# Altium footprint library 排针-排母.PcbLib: 177 footprints (part 1 of 12)
Each footprint in its own frame and in the unit in brackets; x right, y up, seen from the top. Pads: shape width x height; smd on the part's side, far side on the other; paste and mask are expansions set on the pad; w line width, h text height; cw(c..) or ccw(c..) is an arc to the next point about the centre after c.
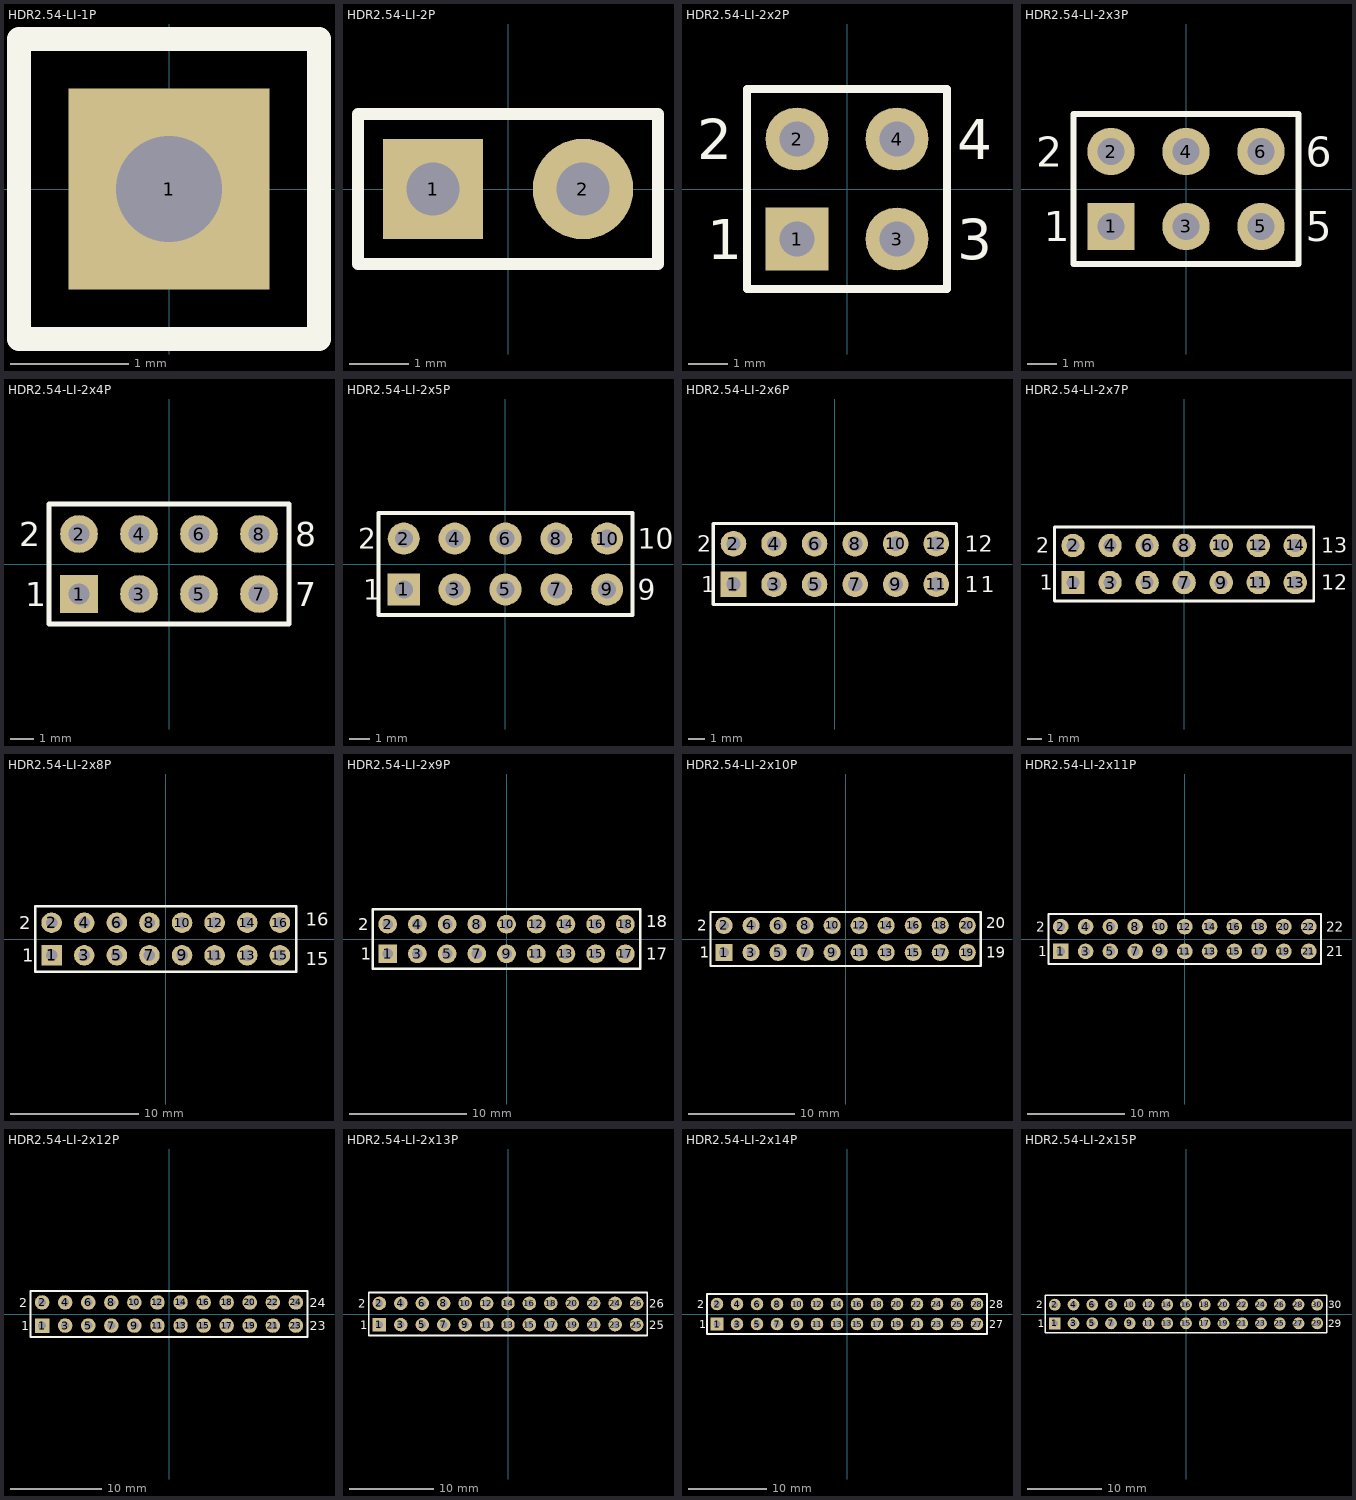
[diagram p0: the footprints below, top view; thin cyan lines are the x and y axes]

## HDR2.54-LI-1P [mm] "排针，1脚"
pads (1):
  rect 1.7x1.7 hole 0.9: 1(0,0)
Top Overlay:
  lines w0.2: -1.27,-1.27 -1.27,1.27 1.27,1.27 1.27,-1.27 -1.27,-1.27
3D body: height 8.5, standoff -3, extent -1.27,-1.27 1.27,1.27

## HDR2.54-LI-2P [mm] "排针，2脚"
pads (2):
  rect 1.7x1.7 hole 0.9: 1(-1.27,0)
  round 1.7 hole 0.9: 2(1.27,0)
Top Overlay:
  lines w0.2: -2.54,-1.27 -2.54,1.27 2.54,1.27 2.54,-1.27 -2.54,-1.27
3D body: height 8.5, standoff -3, extent 0,-1.27 2.54,1.27
3D body: height 8.5, standoff -3, extent -2.54,-1.27 0,1.27

## HDR2.54-LI-2x2P [mm] "双排排针，2x2脚"
pads (4):
  rect 1.6x1.6 hole 0.9: 1(-1.27,-1.27)
  round 1.6 hole 0.9: 2(-1.27,1.27) 3(1.27,-1.27) 4(1.27,1.27)
Top Overlay:
  lines w0.2: -2.54,-2.54 2.54,-2.54 2.54,2.54 -2.54,2.54 -2.54,-2.54
  text "3" at 2.794,-1.778 h1.02
  text "4" at 2.794,0.762 h1.02
  text "2" at -3.81,0.762 h1.02
  text "1" at -3.556,-1.778 h1.02
3D body: height 8.5, standoff -3, extent 0,-2.54 2.54,2.54
3D body: height 8.5, standoff -3, extent -2.54,-2.54 0,2.54

## HDR2.54-LI-2x3P [mm] "双排排针，3x2脚"
pads (6):
  rect 1.6x1.6 hole 0.9: 1(-2.54,-1.27)
  round 1.6 hole 0.9: 2(-2.54,1.27) 3(0,-1.27) 4(0,1.27) 5(2.54,-1.27) 6(2.54,1.27)
Top Overlay:
  lines w0.2: -1.058,-2.54 3.81,-2.54 ; 3.81,-2.54 -3.81,-2.54 -3.81,2.54 3.81,2.54 3.81,-2.54
  text "1" at -4.826,-1.778 h1.02
  text "2" at -5.08,0.762 h1.02
  text "5" at 4.064,-1.778 h1.02
  text "6" at 4.064,0.762 h1.02
3D body: height 8.5, standoff -3, extent -1.27,-2.54 1.27,2.54
3D body: height 8.5, standoff -3, extent -3.81,-2.54 -1.27,2.54
3D body: height 8.5, standoff -3, extent 1.27,-2.54 3.81,2.54

## HDR2.54-LI-2x4P [mm] "双排排针，4x2脚"
pads (8):
  rect 1.6x1.6 hole 0.9: 1(-3.81,-1.27)
  round 1.6 hole 0.9: 2(-3.81,1.27) 3(-1.27,-1.27) 4(-1.27,1.27) 5(1.27,-1.27) 6(1.27,1.27) 7(3.81,-1.27) 8(3.81,1.27)
Top Overlay:
  lines w0.2: -2.328,-2.54 5.08,-2.54 5.08,2.54 -5.08,2.54 -5.08,-2.54 2.54,-2.54
  text "7" at 5.334,-1.778 h1.02
  text "2" at -6.35,0.762 h1.02
  text "1" at -6.096,-1.778 h1.02
  text "8" at 5.334,0.762 h1.02
3D body: height 8.5, standoff -3, extent 0,-2.54 2.54,2.54
3D body: height 8.5, standoff -3, extent 2.54,-2.54 5.08,2.54
3D body: height 8.5, standoff -3, extent -5.08,-2.54 -2.54,2.54
3D body: height 8.5, standoff -3, extent -2.54,-2.54 0,2.54

## HDR2.54-LI-2x5P [mm] "双排排针，5x2脚"
pads (10):
  rect 1.6x1.6 hole 0.9: 1(-5.08,-1.27)
  round 1.6 hole 0.9: 2(-5.08,1.27) 3(-2.54,-1.27) 4(-2.54,1.27) 5(0,-1.27) 6(0,1.27) 7(2.54,-1.27) 8(2.54,1.27) 9(5.08,-1.27) 10(5.08,1.27)
Top Overlay:
  lines w0.2: -6.35,-2.54 6.35,-2.54 6.35,2.54 -6.35,2.54 -6.35,-2.54
  text "10" at 6.604,0.762 h1.02
  text "9" at 6.604,-1.778 h1.02
  text "1" at -7.112,-1.778 h1.02
  text "2" at -7.366,0.762 h1.02
3D body: height 8.5, standoff -3, extent 3.81,-2.54 6.35,2.54
3D body: height 8.5, standoff -3, extent -3.81,-2.54 -1.27,2.54
3D body: height 8.5, standoff -3, extent -6.35,-2.54 -3.81,2.54
3D body: height 8.5, standoff -3, extent 1.27,-2.54 3.81,2.54
3D body: height 8.5, standoff -3, extent -1.27,-2.54 1.27,2.54

## HDR2.54-LI-2x6P [mm] "双排排针，6x2脚"
pads (12):
  rect 1.6x1.6 hole 0.9: 1(-6.35,-1.27)
  round 1.6 hole 0.9: 2(-6.35,1.27) 3(-3.81,-1.27) 4(-3.81,1.27) 5(-1.27,-1.27) 6(-1.27,1.27) 7(1.27,-1.27) 8(1.27,1.27) 9(3.81,-1.27) 10(3.81,1.27) 11(6.35,-1.27) 12(6.35,1.27)
Top Overlay:
  lines w0.2: -7.62,-2.54 7.62,-2.54 7.62,2.54 -7.62,2.54 -7.62,-2.54
  text "12" at 8.128,0.762 h1.02
  text "1" at 9.144,-1.778 h1.02
  text "1" at 8.128,-1.778 h1.02
  text "1" at -8.382,-1.778 h1.02
  text "2" at -8.636,0.762 h1.02
3D body: height 8.5, standoff -3, extent 2.54,-2.54 5.08,2.54
3D body: height 8.5, standoff -3, extent -5.08,-2.54 -2.54,2.54
3D body: height 8.5, standoff -3, extent -7.62,-2.54 -5.08,2.54
3D body: height 8.5, standoff -3, extent 0,-2.54 2.54,2.54
3D body: height 8.5, standoff -3, extent -2.54,-2.54 0,2.54
3D body: height 8.5, standoff -3, extent 5.08,-2.54 7.62,2.54

## HDR2.54-LI-2x7P [mm] "双排排针，7x2脚"
pads (14):
  rect 1.6x1.6 hole 0.9: 1(-7.62,-1.27)
  round 1.6 hole 0.9: 2(-7.62,1.27) 3(-5.08,-1.27) 4(-5.08,1.27) 5(-2.54,-1.27) 6(-2.54,1.27) 7(0,-1.27) 8(0,1.27) 9(2.54,-1.27) 10(2.54,1.27) 11(5.08,-1.27) 12(5.08,1.27) 13(7.62,-1.27) 14(7.62,1.27)
Top Overlay:
  lines w0.2: -8.89,-2.54 8.89,-2.54 8.89,2.54 -8.89,2.54 -8.89,-2.54
  text "12" at 9.398,-1.778 h1.02
  text "13" at 9.398,0.762 h1.02
  text "1" at -9.906,-1.778 h1.02
  text "2" at -10.16,0.762 h1.02
3D body: height 8.5, standoff -3, extent 1.27,-2.54 3.81,2.54
3D body: height 8.5, standoff -3, extent -6.35,-2.54 -3.81,2.54
3D body: height 8.5, standoff -3, extent -8.89,-2.54 -6.35,2.54
3D body: height 8.5, standoff -3, extent -1.27,-2.54 1.27,2.54
3D body: height 8.5, standoff -3, extent -3.81,-2.54 -1.27,2.54
3D body: height 8.5, standoff -3, extent 6.35,-2.54 8.89,2.54
3D body: height 8.5, standoff -3, extent 3.81,-2.54 6.35,2.54

## HDR2.54-LI-2x8P [mm] "双排排针，8x2脚"
pads (16):
  rect 1.6x1.6 hole 0.9: 1(-8.89,-1.27)
  round 1.6 hole 0.9: 2(-8.89,1.27) 3(-6.35,-1.27) 4(-6.35,1.27) 5(-3.81,-1.27) 6(-3.81,1.27) 7(-1.27,-1.27) 8(-1.27,1.27) 9(1.27,-1.27) 10(1.27,1.27) 11(3.81,-1.27) 12(3.81,1.27) 13(6.35,-1.27) 14(6.35,1.27) 15(8.89,-1.27) 16(8.89,1.27)
Top Overlay:
  lines w0.2: -10.16,-2.54 -10.16,2.54 10.16,2.54 10.16,-2.54 -10.16,-2.54
  text "2" at -11.43,0.762 h1.02
  text "1" at -11.176,-1.778 h1.02
  text "16" at 10.922,1.016 h1.02
  text "15" at 10.922,-2.032 h1.02
3D body: height 8.5, standoff -3, extent 0,-2.54 2.54,2.54
3D body: height 8.5, standoff -3, extent -7.62,-2.54 -5.08,2.54
3D body: height 8.5, standoff -3, extent -10.16,-2.54 -7.62,2.54
3D body: height 8.5, standoff -3, extent -2.54,-2.54 0,2.54
3D body: height 8.5, standoff -3, extent -5.08,-2.54 -2.54,2.54
3D body: height 8.5, standoff -3, extent 5.08,-2.54 7.62,2.54
3D body: height 8.5, standoff -3, extent 2.54,-2.54 5.08,2.54
3D body: height 8.5, standoff -3, extent 7.62,-2.54 10.16,2.54

## HDR2.54-LI-2x9P [mm] "双排排针，9x2脚"
pads (18):
  rect 1.6x1.6 hole 0.9: 1(-10.16,-1.27)
  round 1.6 hole 0.9: 2(-10.16,1.27) 3(-7.62,-1.27) 4(-7.62,1.27) 5(-5.08,-1.27) 6(-5.08,1.27) 7(-2.54,-1.27) 8(-2.54,1.27) 9(0,-1.27) 10(0,1.27) 11(2.54,-1.27) 12(2.54,1.27) 13(5.08,-1.27) 14(5.08,1.27) 15(7.62,-1.27) 16(7.62,1.27) 17(10.16,-1.27) 18(10.16,1.27)
Top Overlay:
  lines w0.2: -11.43,-2.54 11.43,-2.54 11.43,2.54 -11.43,2.54 -11.43,-2.54
  text "17" at 11.938,-1.778 h1.02
  text "18" at 11.938,1.016 h1.02
  text "1" at -12.446,-1.778 h1.02
  text "2" at -12.7,0.762 h1.02
3D body: height 8.5, standoff -3, extent 6.35,-2.54 8.89,2.54
3D body: height 8.5, standoff -3, extent 8.89,-2.54 11.43,2.54
3D body: height 8.5, standoff -3, extent 1.27,-2.54 3.81,2.54
3D body: height 8.5, standoff -3, extent 3.81,-2.54 6.35,2.54
3D body: height 8.5, standoff -3, extent -6.35,-2.54 -3.81,2.54
3D body: height 8.5, standoff -3, extent -3.81,-2.54 -1.27,2.54
3D body: height 8.5, standoff -3, extent -11.43,-2.54 -8.89,2.54
3D body: height 8.5, standoff -3, extent -8.89,-2.54 -6.35,2.54
3D body: height 8.5, standoff -3, extent -1.27,-2.54 1.27,2.54

## HDR2.54-LI-2x10P [mm] "双排排针，10x2脚"
pads (20):
  rect 1.6x1.6 hole 0.9: 1(-11.43,-1.27)
  round 1.6 hole 0.9: 2(-11.43,1.27) 3(-8.89,-1.27) 4(-8.89,1.27) 5(-6.35,-1.27) 6(-6.35,1.27) 7(-3.81,-1.27) 8(-3.81,1.27) 9(-1.27,-1.27) 10(-1.27,1.27) 11(1.27,-1.27) 12(1.27,1.27) 13(3.81,-1.27) 14(3.81,1.27) 15(6.35,-1.27) 16(6.35,1.27) 17(8.89,-1.27) 18(8.89,1.27) 19(11.43,-1.27) 20(11.43,1.27)
Top Overlay:
  lines w0.2: -12.7,-2.54 -12.7,2.54 12.7,2.54 12.7,-2.54 -12.7,-2.54
  text "2" at -13.97,0.762 h1.02
  text "1" at -13.716,-1.778 h1.02
  text "20" at 13.208,1.016 h1.02
  text "19" at 13.208,-1.778 h1.02
3D body: height 8.5, standoff -3, extent -2.54,-2.54 0,2.54
3D body: height 8.5, standoff -3, extent -10.16,-2.54 -7.62,2.54
3D body: height 8.5, standoff -3, extent -12.7,-2.54 -10.16,2.54
3D body: height 8.5, standoff -3, extent -5.08,-2.54 -2.54,2.54
3D body: height 8.5, standoff -3, extent -7.62,-2.54 -5.08,2.54
3D body: height 8.5, standoff -3, extent 10.16,-2.54 12.7,2.54
3D body: height 8.5, standoff -3, extent 2.54,-2.54 5.08,2.54
3D body: height 8.5, standoff -3, extent 0,-2.54 2.54,2.54
3D body: height 8.5, standoff -3, extent 7.62,-2.54 10.16,2.54
3D body: height 8.5, standoff -3, extent 5.08,-2.54 7.62,2.54

## HDR2.54-LI-2x11P [mm] "双排排针，11x2脚"
pads (22):
  rect 1.6x1.6 hole 0.9: 1(-12.7,-1.27)
  round 1.6 hole 0.9: 2(-12.7,1.27) 3(-10.16,-1.27) 4(-10.16,1.27) 5(-7.62,-1.27) 6(-7.62,1.27) 7(-5.08,-1.27) 8(-5.08,1.27) 9(-2.54,-1.27) 10(-2.54,1.27) 11(0,-1.27) 12(0,1.27) 13(2.54,-1.27) 14(2.54,1.27) 15(5.08,-1.27) 16(5.08,1.27) 17(7.62,-1.27) 18(7.62,1.27) 19(10.16,-1.27) 20(10.16,1.27) 21(12.7,-1.27) 22(12.7,1.27)
Top Overlay:
  lines w0.2: -13.97,-2.54 13.97,-2.54 13.97,2.54 -13.97,2.54 -13.97,-2.54
  text "22" at 14.478,0.762 h1.02
  text "21" at 14.478,-1.778 h1.02
  text "2" at -15.24,0.762 h1.02
  text "1" at -14.986,-1.778 h1.02
3D body: height 8.5, standoff -3, extent 11.43,-2.54 13.97,2.54
3D body: height 8.5, standoff -3, extent 3.81,-2.54 6.35,2.54
3D body: height 8.5, standoff -3, extent 6.35,-2.54 8.89,2.54
3D body: height 8.5, standoff -3, extent -1.27,-2.54 1.27,2.54
3D body: height 8.5, standoff -3, extent 1.27,-2.54 3.81,2.54
3D body: height 8.5, standoff -3, extent 8.89,-2.54 11.43,2.54
3D body: height 8.5, standoff -3, extent -8.89,-2.54 -6.35,2.54
3D body: height 8.5, standoff -3, extent -6.35,-2.54 -3.81,2.54
3D body: height 8.5, standoff -3, extent -13.97,-2.54 -11.43,2.54
3D body: height 8.5, standoff -3, extent -11.43,-2.54 -8.89,2.54
3D body: height 8.5, standoff -3, extent -3.81,-2.54 -1.27,2.54

## HDR2.54-LI-2x12P [mm] "双排排针，12x2脚"
pads (24):
  rect 1.6x1.6 hole 0.9: 1(-13.97,-1.27)
  round 1.6 hole 0.9: 2(-13.97,1.27) 3(-11.43,-1.27) 4(-11.43,1.27) 5(-8.89,-1.27) 6(-8.89,1.27) 7(-6.35,-1.27) 8(-6.35,1.27) 9(-3.81,-1.27) 10(-3.81,1.27) 11(-1.27,-1.27) 12(-1.27,1.27) 13(1.27,-1.27) 14(1.27,1.27) 15(3.81,-1.27) 16(3.81,1.27) 17(6.35,-1.27) 18(6.35,1.27) 19(8.89,-1.27) 20(8.89,1.27) 21(11.43,-1.27) 22(11.43,1.27) 23(13.97,-1.27) 24(13.97,1.27)
Top Overlay:
  lines w0.2: -15.24,-2.54 -15.24,2.54 15.24,2.54 15.24,-2.54 -15.24,-2.54
  text "1" at -16.256,-1.778 h1.02
  text "2" at -16.51,0.762 h1.02
  text "23" at 15.494,-1.778 h1.02
  text "24" at 15.494,0.762 h1.02
3D body: height 8.5, standoff -3, extent -5.08,-2.54 -2.54,2.54
3D body: height 8.5, standoff -3, extent -12.7,-2.54 -10.16,2.54
3D body: height 8.5, standoff -3, extent -15.24,-2.54 -12.7,2.54
3D body: height 8.5, standoff -3, extent -7.62,-2.54 -5.08,2.54
3D body: height 8.5, standoff -3, extent -10.16,-2.54 -7.62,2.54
3D body: height 8.5, standoff -3, extent 7.62,-2.54 10.16,2.54
3D body: height 8.5, standoff -3, extent 0,-2.54 2.54,2.54
3D body: height 8.5, standoff -3, extent -2.54,-2.54 0,2.54
3D body: height 8.5, standoff -3, extent 5.08,-2.54 7.62,2.54
3D body: height 8.5, standoff -3, extent 2.54,-2.54 5.08,2.54
3D body: height 8.5, standoff -3, extent 12.7,-2.54 15.24,2.54
3D body: height 8.5, standoff -3, extent 10.16,-2.54 12.7,2.54

## HDR2.54-LI-2x13P [mm] "双排排针，13x2脚"
pads (26):
  rect 1.6x1.6 hole 0.9: 1(-15.24,-1.27)
  round 1.6 hole 0.9: 2(-15.24,1.27) 3(-12.7,-1.27) 4(-12.7,1.27) 5(-10.16,-1.27) 6(-10.16,1.27) 7(-7.62,-1.27) 8(-7.62,1.27) 9(-5.08,-1.27) 10(-5.08,1.27) 11(-2.54,-1.27) 12(-2.54,1.27) 13(0,-1.27) 14(0,1.27) 15(2.54,-1.27) 16(2.54,1.27) 17(5.08,-1.27) 18(5.08,1.27) 19(7.62,-1.27) 20(7.62,1.27) 21(10.16,-1.27) 22(10.16,1.27) 23(12.7,-1.27) 24(12.7,1.27) 25(15.24,-1.27) 26(15.24,1.27)
Top Overlay:
  lines w0.2: -16.51,-2.54 16.51,-2.54 16.51,2.54 -16.51,2.54 -16.51,-2.54
  text "26" at 16.764,0.762 h1.02
  text "25" at 16.764,-1.778 h1.02
  text "1" at -17.526,-1.778 h1.02
  text "2" at -17.78,0.762 h1.02
3D body: height 8.5, standoff -3, extent 13.97,-2.54 16.51,2.54
3D body: height 8.5, standoff -3, extent 8.89,-2.54 11.43,2.54
3D body: height 8.5, standoff -3, extent 11.43,-2.54 13.97,2.54
3D body: height 8.5, standoff -3, extent 1.27,-2.54 3.81,2.54
3D body: height 8.5, standoff -3, extent 3.81,-2.54 6.35,2.54
3D body: height 8.5, standoff -3, extent -3.81,-2.54 -1.27,2.54
3D body: height 8.5, standoff -3, extent -1.27,-2.54 1.27,2.54
3D body: height 8.5, standoff -3, extent 6.35,-2.54 8.89,2.54
3D body: height 8.5, standoff -3, extent -11.43,-2.54 -8.89,2.54
3D body: height 8.5, standoff -3, extent -8.89,-2.54 -6.35,2.54
3D body: height 8.5, standoff -3, extent -16.51,-2.54 -13.97,2.54
3D body: height 8.5, standoff -3, extent -13.97,-2.54 -11.43,2.54
3D body: height 8.5, standoff -3, extent -6.35,-2.54 -3.81,2.54

## HDR2.54-LI-2x14P [mm] "双排排针，14x2脚"
pads (28):
  rect 1.6x1.6 hole 0.9: 1(-16.51,-1.27)
  round 1.6 hole 0.9: 2(-16.51,1.27) 3(-13.97,-1.27) 4(-13.97,1.27) 5(-11.43,-1.27) 6(-11.43,1.27) 7(-8.89,-1.27) 8(-8.89,1.27) 9(-6.35,-1.27) 10(-6.35,1.27) 11(-3.81,-1.27) 12(-3.81,1.27) 13(-1.27,-1.27) 14(-1.27,1.27) 15(1.27,-1.27) 16(1.27,1.27) 17(3.81,-1.27) 18(3.81,1.27) 19(6.35,-1.27) 20(6.35,1.27) 21(8.89,-1.27) 22(8.89,1.27) 23(11.43,-1.27) 24(11.43,1.27) 25(13.97,-1.27) 26(13.97,1.27) 27(16.51,-1.27) 28(16.51,1.27)
Top Overlay:
  lines w0.2: -17.78,-2.54 17.78,-2.54 17.78,2.54 -17.78,2.54 -17.78,-2.54
  text "28" at 18.034,0.762 h1.02
  text "27" at 18.034,-1.778 h1.02
  text "1" at -18.796,-1.778 h1.02
  text "2" at -19.05,0.762 h1.02
3D body: height 8.5, standoff -3, extent 12.7,-2.54 15.24,2.54
3D body: height 8.5, standoff -3, extent 15.24,-2.54 17.78,2.54
3D body: height 8.5, standoff -3, extent 7.62,-2.54 10.16,2.54
3D body: height 8.5, standoff -3, extent 10.16,-2.54 12.7,2.54
3D body: height 8.5, standoff -3, extent 0,-2.54 2.54,2.54
3D body: height 8.5, standoff -3, extent 2.54,-2.54 5.08,2.54
3D body: height 8.5, standoff -3, extent -5.08,-2.54 -2.54,2.54
3D body: height 8.5, standoff -3, extent -2.54,-2.54 0,2.54
3D body: height 8.5, standoff -3, extent 5.08,-2.54 7.62,2.54
3D body: height 8.5, standoff -3, extent -12.7,-2.54 -10.16,2.54
3D body: height 8.5, standoff -3, extent -10.16,-2.54 -7.62,2.54
3D body: height 8.5, standoff -3, extent -17.78,-2.54 -15.24,2.54
3D body: height 8.5, standoff -3, extent -15.24,-2.54 -12.7,2.54
3D body: height 8.5, standoff -3, extent -7.62,-2.54 -5.08,2.54

## HDR2.54-LI-2x15P [mm] "双排排针，15x2脚"
pads (30):
  rect 1.6x1.6 hole 0.9: 1(-17.78,-1.27)
  round 1.6 hole 0.9: 2(-17.78,1.27) 3(-15.24,-1.27) 4(-15.24,1.27) 5(-12.7,-1.27) 6(-12.7,1.27) 7(-10.16,-1.27) 8(-10.16,1.27) 9(-7.62,-1.27) 10(-7.62,1.27) 11(-5.08,-1.27) 12(-5.08,1.27) 13(-2.54,-1.27) 14(-2.54,1.27) 15(0,-1.27) 16(0,1.27) 17(2.54,-1.27) 18(2.54,1.27) 19(5.08,-1.27) 20(5.08,1.27) 21(7.62,-1.27) 22(7.62,1.27) 23(10.16,-1.27) 24(10.16,1.27) 25(12.7,-1.27) 26(12.7,1.27) 27(15.24,-1.27) 28(15.24,1.27) 29(17.78,-1.27) 30(17.78,1.27)
Top Overlay:
  lines w0.2: -19.05,-2.54 -19.05,2.54 19.05,2.54 19.05,-2.54 -19.05,-2.54
  text "30" at 19.304,0.762 h1.02
  text "29" at 19.304,-1.778 h1.02
  text "2" at -20.32,0.762 h1.02
  text "1" at -20.066,-1.778 h1.02
3D body: height 8.5, standoff -3, extent 11.43,-2.54 13.97,2.54
3D body: height 8.5, standoff -3, extent 13.97,-2.54 16.51,2.54
3D body: height 8.5, standoff -3, extent 6.35,-2.54 8.89,2.54
3D body: height 8.5, standoff -3, extent 8.89,-2.54 11.43,2.54
3D body: height 8.5, standoff -3, extent 16.51,-2.54 19.05,2.54
3D body: height 8.5, standoff -3, extent -1.27,-2.54 1.27,2.54
3D body: height 8.5, standoff -3, extent 1.27,-2.54 3.81,2.54
3D body: height 8.5, standoff -3, extent -6.35,-2.54 -3.81,2.54
3D body: height 8.5, standoff -3, extent -3.81,-2.54 -1.27,2.54
3D body: height 8.5, standoff -3, extent 3.81,-2.54 6.35,2.54
3D body: height 8.5, standoff -3, extent -13.97,-2.54 -11.43,2.54
3D body: height 8.5, standoff -3, extent -11.43,-2.54 -8.89,2.54
3D body: height 8.5, standoff -3, extent -19.05,-2.54 -16.51,2.54
3D body: height 8.5, standoff -3, extent -16.51,-2.54 -13.97,2.54
3D body: height 8.5, standoff -3, extent -8.89,-2.54 -6.35,2.54